# Altium schematic symbol library MiniSquidCtrl.SchLib: 64 symbols
Pins are listed as number, name and electrical type; pins without a type are passive.

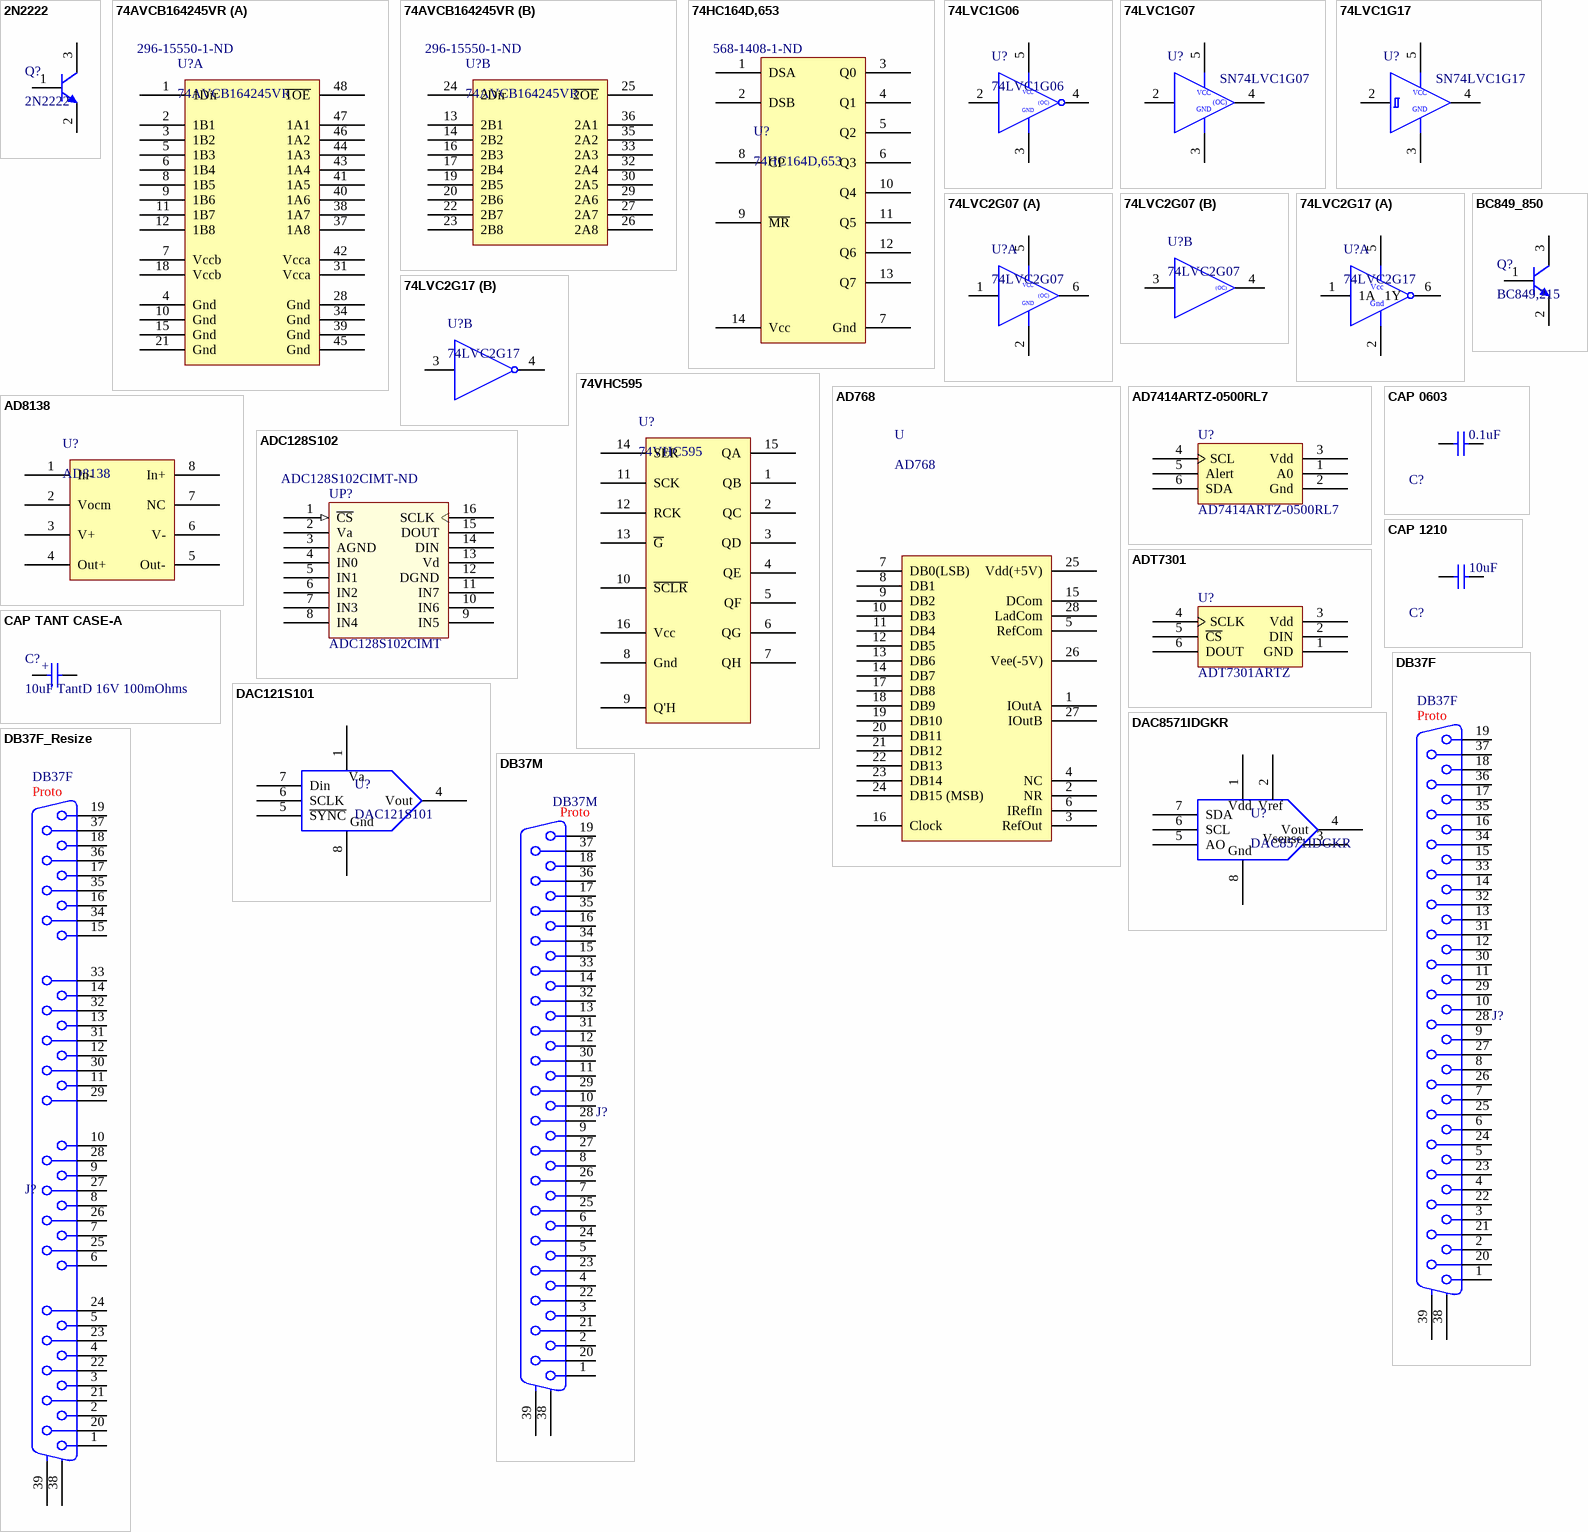
[diagram p0: symbols 2N2222 to DB37M]

## 2N2222
designator Q?
Trans GP BJT NPN 50V 0.8A 3-Pin UB; Manufacturer: Microsemi; Manufacturer Part Number: 2N2222AUB; Lead Time: 16 weeks; Supplier 1: Arrow; RoHS: CHINA ROHS: Not Compliant / EU ROHS: Not Compliant; Stock 1: 0; Pricing 1: 0=11.11 (USD); Package Quantity: 1; Termination Finish: SnPb; EU_ROHS_PROD_EXEMPTION_BY_SUPP: N/R; ComponentLink1URL: http://components.arrow.com/partservice/dataview/altium/5274365S6519402N9770?apiKey=aa438727d59eed98c4bed826d8d949c84cb5e685b92bf87346a0226bd2658797; ComponentLink1Description: http://components.arrow.com/partservice/dataview/altium/5274365S6519402N9770?apiKey=aa438727d59eed98c4bed826d8d949c84cb5e685b92bf87346a0226bd2658797; Footprint: 2N2222AUB
footprint 2N2222AUB (3 Pin package for 2N2222AUB)
pins: 1 B, 2 E, 3 C

## 74AVCB164245VR
designator U?  Supplier Part Number 1: 296-15550-1-ND
IC BUS TRANSCVR 16BIT 48TSSOP; Manufacturer: Texas Instruments; Manufacturer Part Number: SN74AVCB164245GR; Logic Function: Translator, Bidirectional, 3-State; Number of Bits: 16; Input Type: Logic; Number of Channels: 2; Number of Outputs/Channel: 8; Differential - Input:Output: No/No; Propagation Delay (Max): 3.1ns; Voltage - Supply: 1.4 V ~ 3.6 V; RoHS: RoHS Compliant; Category: Integrated Circuits (ICs); Output Type: Logic; Data Rate: -; Operating Temperature: -40°C ~ 85°C; Package / Case: 48-TFSOP (0.240", 6.10mm Width); Supplier Device Package: 48-TSSOP; Packaging: Cut Tape (CT); ComponentLink1URL: http://www.ti.com/lit/ds/symlink/sn74avcb164245.pdf; ComponentLink1Description: http://www.ti.com/lit/ds/symlink/sn74avcb164245.pdf; Supplier 1: Digi-Key
footprint SN74AVCB164245VR (TSSOP, 48-Leads, Body 9.8x4.5mm (max), Pitch 0.40mm, IPC Medium Density)
part A pins: 1 1Dir, 2 1B1, 3 1B2, 4 Gnd, 5 1B3, 6 1B4, 7 Vccb, 8 1B5, 9 1B6, 10 Gnd, 11 1B7, 12 1B8, 15 Gnd, 18 Vccb, 21 Gnd, 28 Gnd, 31 Vcca, 34 Gnd, 37 1A8, 38 1A7, 39 Gnd, 40 1A6, 41 1A5, 42 Vcca, 43 1A4, 44 1A3, 45 Gnd, 46 1A2, 47 1A1, 48 ~{1OE}
part B pins: 13 2B1, 14 2B2, 16 2B3, 17 2B4, 19 2B5, 20 2B6, 22 2B7, 23 2B8, 24 2Dir, 25 ~{2OE}, 26 2A8, 27 2A7, 29 2A6, 30 2A5, 32 2A4, 33 2A3, 35 2A2, 36 2A1

## 74HC164D,653
designator U?  Supplier Part Number 1: 568-1408-1-ND
IC SHIFT REGST 8BIT SI-PO 14SOIC; Manufacturer: NXP Semiconductors; Logic Type: Shift Register; Output Type: Standard; Number of Elements: 1; Number of Bits per Element: 8; Function: Serial to Parallel; Voltage - Supply: 2 V ~ 6 V; Supplier 1: Digi-Key; Manufacturer Part Number: 74HC164D,653; RoHS: RoHS Compliant; Category: Integrated Circuits (ICs); Stock 1: 69280; Pricing 1: 1=0.5, 10=0.392, 25=0.3308, 100=0.2696, 250=0.22332, 500=0.1845, 1000=0.13819 (CAD); Operating Temperature: -40°C ~ 125°C; Mounting Type: Surface Mount; Package / Case: 14-SOIC (0.154", 3.90mm Width); Supplier Device Package: 14-SO; Packaging: Cut Tape (CT); ComponentLink1URL: http://www.nxp.com/documents/data_sheet/74HC_HCT164.pdf; ComponentLink1Description: http://www.nxp.com/documents/data_sheet/74HC_HCT164.pdf
footprint SO14
pins: 1 DSA, 2 DSB, 3 Q0, 4 Q1, 5 Q2, 6 Q3, 7 Gnd, 8 CP, 9 ~{MR}, 10 Q4, 11 Q5, 12 Q6, 13 Q7, 14 Vcc

## 74LVC1G06
designator U?
SINGLE INVERTER BUFFER/DRIVER WITH OPEN-DRAIN OUTPUT; Manufacturer: Texas Instruments; Manufacturer Part Number: SN74LVC1G06DBVR; Logic Type: Inverter with Open Drain; Number of Inputs: 1; Current - Output High, Low: 32mA, 32mA; Voltage - Supply: 1.65 V ~ 5.5 V; Supplier 1: Digi-Key; RoHS: RoHS Compliant; Category: Integrated Circuits (ICs); Stock 1: 9248; Pricing 1: 1=0.1, 10=0.084, 25=0.0748, 100=0.0505, 250=0.04948, 500=0.04856, 750=0.04763 (CAD); Number of Circuits: 1; Operating Temperature: -40°C ~ 85°C; Mounting Type: Surface Mount; Package / Case: SC-74A, SOT-753; Supplier Device Package: SOT-23-5; Packaging: Cut Tape (CT); ComponentLink1URL: http://www.ti.com/lit/ds/symlink/sn74lvc1g06.pdf; ComponentLink1Description: http://www.ti.com/lit/ds/symlink/sn74lvc1g06.pdf
footprint SOT23-5
pins: 2 A, 3 Gnd (power), 4 Y, 5 Vcc (power)
text: VCC; (OC); GND

## 74LVC1G07
designator U?  PartNumber: SN74LVC1G07  (hidden comment: 74LVC1G07)
Single  NON-INVERTING BUFFER, Open Drain
footprint SOT23-5
pins: 2 A, 3 Gnd (power), 4 Y, 5 Vcc (power)
text: VCC; (OC); GND

## 74LVC1G17
designator U?  Part Number: SN74LVC1G17
Single Schmitt-Trigger buffer; Manufacturer: Texas Instruments; Manufacturer Part Number: SN74LVC1G17DBVR; Logic Type: Schmitt Trigger - Buffer, Driver; Number of Elements: 1; Current - Output High, Low: 32mA, 32mA; Voltage - Supply: 1.65 V ~ 5.5 V; Supplier 1: Digi-Key; RoHS: RoHS Compliant; Category: Integrated Circuits (ICs); Stock 1: 19444; Pricing 1: 1=0.1, 10=0.084, 25=0.0748, 100=0.0505, 250=0.04948, 500=0.04856, 750=0.04763 (CAD); Number of Bits per Element: 1; Operating Temperature: -40°C ~ 85°C; Mounting Type: Surface Mount; Package / Case: SC-74A, SOT-753; Supplier Device Package: SOT-23-5; Packaging: Cut Tape (CT); ComponentLink1URL: http://www.ti.com/lit/ds/symlink/sn74lvc1g17.pdf; ComponentLink1Description: http://www.ti.com/lit/ds/symlink/sn74lvc1g17.pdf
footprint SOT23-5
pins: 2 A, 3 Gnd (power), 4 Y, 5 Vcc (power)
text: VCC; GND

## 74LVC2G07
designator U?
Dual Non-Inverting Buffer, Open Drain
part A pins: 1 1A, 2 Gnd (power), 5 Vcc (power), 6 1Y
part B pins: 3 2A, 4 2Y
part A text: VCC; (OC); GND
part B text: (OC)

## 74LVC2G17
designator U?
Manufacturer: Texas Instruments; Manufacturer Part Number: SN74LVC2G17DBVR; Logic Type: Schmitt Trigger - Buffer, Driver; Number of Elements: 2; Number of Bits per Element: 1; Current - Output High, Low: 32mA, 32mA; Voltage - Supply: 1.65 V ~ 5.5 V; Supplier 1: Digi-Key; RoHS: RoHS Compliant; Category: Integrated Circuits (ICs); Stock 1: 23032; Pricing 1: 1=0.23, 10=0.194, 25=0.1728, 100=0.1168, 250=0.11452, 500=0.11238, 750=0.11023 (CAD); Operating Temperature: -40°C ~ 85°C; Mounting Type: Surface Mount; Package / Case: SOT-23-6; Supplier Device Package: SOT-23-6; Packaging: Cut Tape (CT); ComponentLink1URL: http://www.ti.com/lit/ds/symlink/sn74lvc2g17.pdf; ComponentLink1Description: http://www.ti.com/lit/ds/symlink/sn74lvc2g17.pdf
footprint SOT23-5
part A pins: 1 1A, 2 Gnd (power), 5 Vcc (power), 6 1Y
part B pins: 3 2A, 4 2Y

## 74VHC595
designator U?
IC SHIFT REGISTER 8BIT 16-SOIC; Manufacturer: Fairchild Semiconductor; Manufacturer Part Number: 74VHC595MX; Output Type: Standard; Number of Elements: 1; Number of Bits per Element: 8; Function: Serial to Parallel; Voltage - Supply: 2 V ~ 5.5 V; Supplier 1: Digi-Key; RoHS: RoHS Compliant; Category: Integrated Circuits (ICs); Stock 1: 53604; Pricing 1: 1=0.53, 10=0.427, 25=0.374, 100=0.3205, 250=0.2768, 500=0.23796, 1000=0.18453 (CAD); Logic Type: Shift Register; Operating Temperature: -40°C ~ 85°C; Mounting Type: Surface Mount; Package / Case: 16-SOIC (0.154", 3.90mm Width); Supplier Device Package: 16-SOIC; Packaging: Cut Tape (CT); ComponentLink1URL: http://www.fairchildsemi.com/ds/74/74VHC595.pdf; ComponentLink1Description: http://www.fairchildsemi.com/ds/74/74VHC595.pdf
footprint SO16
pins: 1 QB, 2 QC, 3 QD, 4 QE, 5 QF, 6 QG, 7 QH, 8 Gnd, 9 Q'H, 10 ~{SCLR}, 11 SCK, 12 RCK, 13 ~{G}, 14 SER, 15 QA, 16 Vcc

## AD768
designator U
IC DAC 16BIT 30MSPS 28-SOIC; Manufacturer: Analog Devices Inc; Manufacturer Part Number: AD768ARZ; Settling Time: 25ns; Number of Bits: 16; Data Interface: Parallel; Number of Converters: 1; Voltage Supply Source: Dual ±; Power Dissipation (Max): 600mW; Number of Outputs and Type: 2 Current, Unipolar; 2 Current, Bipolar; Sampling Rate (Per Second): 40M; Supplier 1: Digi-Key; RoHS: RoHS Compliant; Category: Integrated Circuits (ICs); Stock 1: 33; Pricing 1: 1=47.2, 25=40.8212, 100=38.27, 250=35.71872, 500=33.93294, 1000=32.52963, 2500=31.63659 (CAD); Operating Temperature: -40°C ~ 85°C; Mounting Type: Surface Mount; Package / Case: 28-SOIC (0.295", 7.50mm Width); Supplier Device Package: 28-SOIC W; Packaging: Tube; ComponentLink1URL: http://www.analog.com/static/imported-files/data_sheets/AD768.pdf; ComponentLink1Description: http://www.analog.com/static/imported-files/data_sheets/AD768.pdf
footprint SOIC28_7.6mmBodyWidth (SOIC, 28-Leads, Body 18.1x7.6mm (max), Pitch 1.27mm, IPC Medium Density)
pins: 1 IOutA, 2 NR, 3 RefOut, 4 NC, 5 RefCom, 6 IRefIn, 7 DB0(LSB), 8 DB1, 9 DB2, 10 DB3, 11 DB4, 12 DB5, 13 DB6, 14 DB7, 15 DCom, 16 Clock, 17 DB8, 18 DB9, 19 DB10, 20 DB11, 21 DB12, 22 DB13, 23 DB14, 24 DB15 (MSB), 25 Vdd(+5V), 26 Vee(-5V), 27 IOutB, 28 LadCom

## AD7414ARTZ-0500RL7
designator U?
Digital Temperature Sensor, 11-Bit, +/-2 Degree Accurate; Manufacturer: Analog Devices; CanPurchaseFrom: Digikey; Footprint: *; TechInfo: *; Manufacturers P/N: AD7414ARTZ-0500RL7
footprint SOT23-6
pins: 1 A0 (power), 2 Gnd, 3 Vdd (power), 4 SCL, 5 Alert, 6 SDA

## AD8138
designator U?
IC AMP DIFF LDIST LP 95MA 8SOIC; Manufacturer: Analog Devices Inc; Manufacturer Part Number: AD8138ARZ; Supplier 1: Digi-Key; RoHS: RoHS Compliant; Category: Integrated Circuits (ICs); Stock 1: 1339; Pricing 1: 1=9.41, 25=7.7196, 100=6.9662, 250=6.40144, 500=5.83662, 1000=5.0835, 2500=4.89522, 5000=4.74211 (CAD); Type: ADC Driver; Applications: Data Acquisition; Mounting Type: Surface Mount; Package / Case: 8-SOIC (0.154", 3.90mm Width); Supplier Device Package: 8-SOIC; Packaging: Tube; ComponentLink1URL: http://www.analog.com/static/imported-files/data_sheets/AD8138.pdf; ComponentLink1Description: http://www.analog.com/static/imported-files/data_sheets/AD8138.pdf
footprint SO8
pins: 1 In-, 2 Vocm, 3 V+, 4 Out+, 5 Out-, 6 V-, 7 NC, 8 In+
1 alternate drawing of the same symbol

## ADC128S102
designator UP?, comment ADC128S102CIMT  Supplier Part Number 1: ADC128S102CIMT-ND
8-Channels, 500kSPS to 1 MSPS, 12-Bit ADC; Manufacturer: National Semiconductor; Manufacturer Part Number: ADC128S102CIMT/NOPB; Number of Bits: 12; Sampling Rate (Per Second): 1M; Data Interface: DSP, MICROWIRE™, QSPI™, Serial, SPI™; Number of Converters: 1; Power Dissipation (Max): 10.7mW; Voltage Supply Source: Analog and Digital; Number of Inputs and Type: 8 Single-Ended, Unipolar; Supplier 1: Digi-Key; RoHS: RoHS Compliant; Category: Integrated Circuits (ICs); Stock 1: 1404; Pricing 1: 1=7, 25=5.734, 100=5.1745, 250=4.75496, 500=4.33542, 1000=3.776, 2500=3.63615, 5000=3.4963 (CAD); Operating Temperature: -40°C ~ 105°C; Mounting Type: Surface Mount; Package / Case: 16-TSSOP (0.173", 4.40mm Width); Supplier Device Package: 16-TSSOP; Packaging: Tube; ComponentLink1URL: http://www.ti.com/lit/ds/symlink/adc128s102.pdf; ComponentLink1Description: http://www.ti.com/lit/ds/symlink/adc128s102.pdf
footprint SSO-G16/X.45 (SSOP; 16 Leads; Body Width 5.3 mm; Pitch 0.65 mm)
pins: 1 ~{CS} (in), 2 Va (power), 3 AGND (power), 4 IN0, 5 IN1, 6 IN2, 7 IN3, 8 IN4, 9 IN5, 10 IN6, 11 IN7, 12 DGND (power), 13 Vd (power), 14 DIN, 15 DOUT, 16 SCLK

## ADT7301
designator U?, comment ADT7301ARTZ
Digital Temperature Sensor, 13-Bit, +/-1 Degree Accurate; Manufacturer: Analog Devices; CanPurchaseFrom: Digikey; Footprint: *; TechInfo: *; Manufacturers P/N: ADT7301ARTZ
footprint SOT23-6
pins: 1 GND (power), 2 DIN, 3 Vdd (power), 4 SCLK, 5 ~{CS}, 6 DOUT

## BC849_850
designator Q?, comment BC849,215
TRANSISTOR NPN 30V 100MA SOT23; Manufacturer 1: NXP Semiconductors; Manufacturer Part Number 1: BC849C,215; Category 1: Discrete Semiconductor Products; Vce Saturation (Max) @ Ib, Ic: 600mV @ 5mA, 100mA; DC Current Gain (hFE) (Min) @ Ic, Vce: 420 @ 2mA, 5V; Power - Max: 250mW; Frequency - Transition: 100MHz; Supplier 1: Digi-Key; RoHS 1: RoHS Compliant; Description 1: TRANSISTOR NPN 30V 100MA SOT23; Stock 1: 9000; Pricing 1: 3000=0.04162, 6000=0.03754, 15000=0.03264, 30000=0.02938, 75000=0.02611, 150000=0.0217 (CAD); Transistor Type: NPN; Current - Collector (Ic) (Max): 100mA; Voltage - Collector Emitter Breakdown (Max): 30V; Current - Collector Cutoff (Max): -; Mounting Type: Surface Mount; Package / Case: TO-236-3, SC-59, SOT-23-3; Supplier Device Package: TO-236AB; Packaging: Tape & Reel (TR); ComponentLink1URL: http://www.nxp.com/documents/data_sheet/BC849_BC850.pdf; ComponentLink1Description: http://www.nxp.com/documents/data_sheet/BC849_BC850.pdf; Supplier Part Number 1: 568-6073-2-ND
footprint SOT23
pins: 1 B, 2 E, 3 C

## CAP 0603
designator C?  value 0.1uF
Capacitor, Ceramic, 0603; Manufacturer: Generic; Voltage: 16V; Tolerance: 10%; Material: X7R; Manufacturer Part Number: ='CAP'+Footprint+' '+Value + ' ' + Voltage + ' ' + Tollerance + ' ' + Material + ' (e.g C0603C series)'; Footprint: 0603; Part Constraints: =Capacitance + ' ' + Voltage + ' ' + Tollerance + ' ' + Material + ' ' + Footprint
footprint 0603
pins: 1, 2

## CAP 1210
designator C?, comment value 10uF  (hidden comment: 10uF, 1210)
Capacitor, Ceramic, 1210; Manufacturer Part Number: 1206YD106KAT2A; Manufacturer: AVX Corporation; Part Constraints: 10uF 1210 16V X5R <=1.78mm height; Voltage: 16V; Footprint: 1210; Supplier 1: Digikey; Supplier Part Number 1: 478-1573-1-ND
footprint CC3225-1210
pins: 1, 2

## CAP TANT CASE-A
designator C?, comment 10uF TantD 16V 100mOhms
Tant Cap; Manufacturer: Generic; Footprint: D; Capacitance: 10uF; Voltage: 16V; ESR: 100mOhms
footprint TCASE-D
footprint TCASE-B
footprint TCASE-A
pins: 1, 2
text: +

## DAC121S101
designator U?
CONV D/A 12BIT MICROPWR 8MSOP; Manufacturer: National Semiconductor; Manufacturer Part Number: DAC121S101CIMM/NOPB; Settling Time: 12µs; Number of Bits: 12; Data Interface: DSP, MICROWIRE™, QSPI™, Serial, SPI™; Number of Converters: 1; Voltage Supply Source: Single Supply; Power Dissipation (Max): 1.72mW; Number of Outputs and Type: 1 Voltage, Unipolar; 1 Voltage, Bipolar; Supplier 1: Digi-Key; RoHS: RoHS Compliant; Category: Integrated Circuits (ICs); Stock 1: 3011; Pricing 1: 1=3.5, 25=2.8616, 100=2.5698, 250=2.33624, 500=2.0442 (CAD); Operating Temperature: -40°C ~ 105°C; Mounting Type: Surface Mount; Package / Case: 8-TSSOP, 8-MSOP (0.118", 3.00mm Width); Supplier Device Package: 8-MSOP; Packaging: Cut Tape (CT); Sampling Rate (Per Second): *; ComponentLink1URL: http://www.ti.com/lit/ds/symlink/dac121s101.pdf; ComponentLink1Description: http://www.ti.com/lit/ds/symlink/dac121s101.pdf
footprint MSOP-8
pins: 1 Va, 2 NC hidden, 3 NC hidden, 4 Vout, 5 ~{SYNC}, 6 SCLK, 7 Din, 8 Gnd
1 alternate drawing of the same symbol

## DAC8571IDGKR
designator U?
IC DAC 16BIT I2C V-OUT LP 8-MSOP; Manufacturer 1: Texas Instruments; Category 1: Integrated Circuits (ICs); Settling Time: 12µs; Number of Bits: 16; Data Interface: I²C, Serial; Number of Converters: 1; Voltage Supply Source: Single Supply; Number of Outputs and Type: 1 Voltage, Unipolar; Sampling Rate (Per Second): 43k; Supplier 1: Digi-Key; Manufacturer Part Number 1: DAC8571IDGKR; RoHS 1: RoHS Compliant; Description 1: IC DAC 16BIT I2C V-OUT LP 8-MSOP; Stock 1: 21077; Pricing 1: 1=7.6, 10=6.839, 25=6.2192, 100=3.9792, 250=3.9054, 500=3.83172, 750=3.75803 (CAD); Power Dissipation (Max): -; Operating Temperature: -40°C ~ 105°C; Mounting Type: Surface Mount; Package / Case: 8-TSSOP, 8-MSOP (0.118", 3.00mm Width); Supplier Device Package: 8-MSOP; Packaging: Cut Tape (CT); ComponentLink1URL: http://www.ti.com/lit/ds/symlink/dac8571.pdf; ComponentLink1Description: http://www.ti.com/lit/ds/symlink/dac8571.pdf; Supplier Part Number 1: 296-14307-1-ND
footprint MSOP-8
pins: 1 Vdd, 2 Vref, 3 Vsense, 4 Vout, 5 AO, 6 SCL, 7 SDA, 8 Gnd
1 alternate drawing of the same symbol

## DB37F
designator J?  Symbol status: Proto
DB37F; Manufacturer: Generic; Manufacturer Part Number: DB37F
footprint DSUB37-F (DSUB 37Pin Female)
pins: 1, 2, 3, 4, 5, 6, 7, 8, 9, 10, 11, 12, 13, 14, 15, 16, 17, 18, 19, 20, 21, 22, 23, 24, 25, 26, 27, 28, 29, 30, 31, 32, 33, 34, 35, 36, 37, 38 MH1, 39 MH2
1 alternate drawing of the same symbol

## DB37F_Resize
designator J?  Symbol status: Proto
DB37F; Manufacturer: Generic; Manufacturer Part Number: DB37F
footprint DSUB37-F (DSUB 37Pin Female)
footprint DSUB37-F (590mils) (DSUB 37Pin Female - 590mils from board edge to first pin)
pins: 1, 2, 3, 4, 5, 6, 7, 8, 9, 10, 11, 12, 13, 14, 15, 16, 17, 18, 19, 20, 21, 22, 23, 24, 25, 26, 27, 28, 29, 30, 31, 32, 33, 34, 35, 36, 37, 38 MH1, 39 MH2
1 alternate drawing of the same symbol

## DB37M
designator J?  Symbol status: Proto
DB37M; Manufacturer: Generic; Manufacturer Part Number: DB37M
footprint DSUB37-M (DSUB 37Pin Male)
pins: 1, 2, 3, 4, 5, 6, 7, 8, 9, 10, 11, 12, 13, 14, 15, 16, 17, 18, 19, 20, 21, 22, 23, 24, 25, 26, 27, 28, 29, 30, 31, 32, 33, 34, 35, 36, 37, 38 MH1, 39 MH2
1 alternate drawing of the same symbol

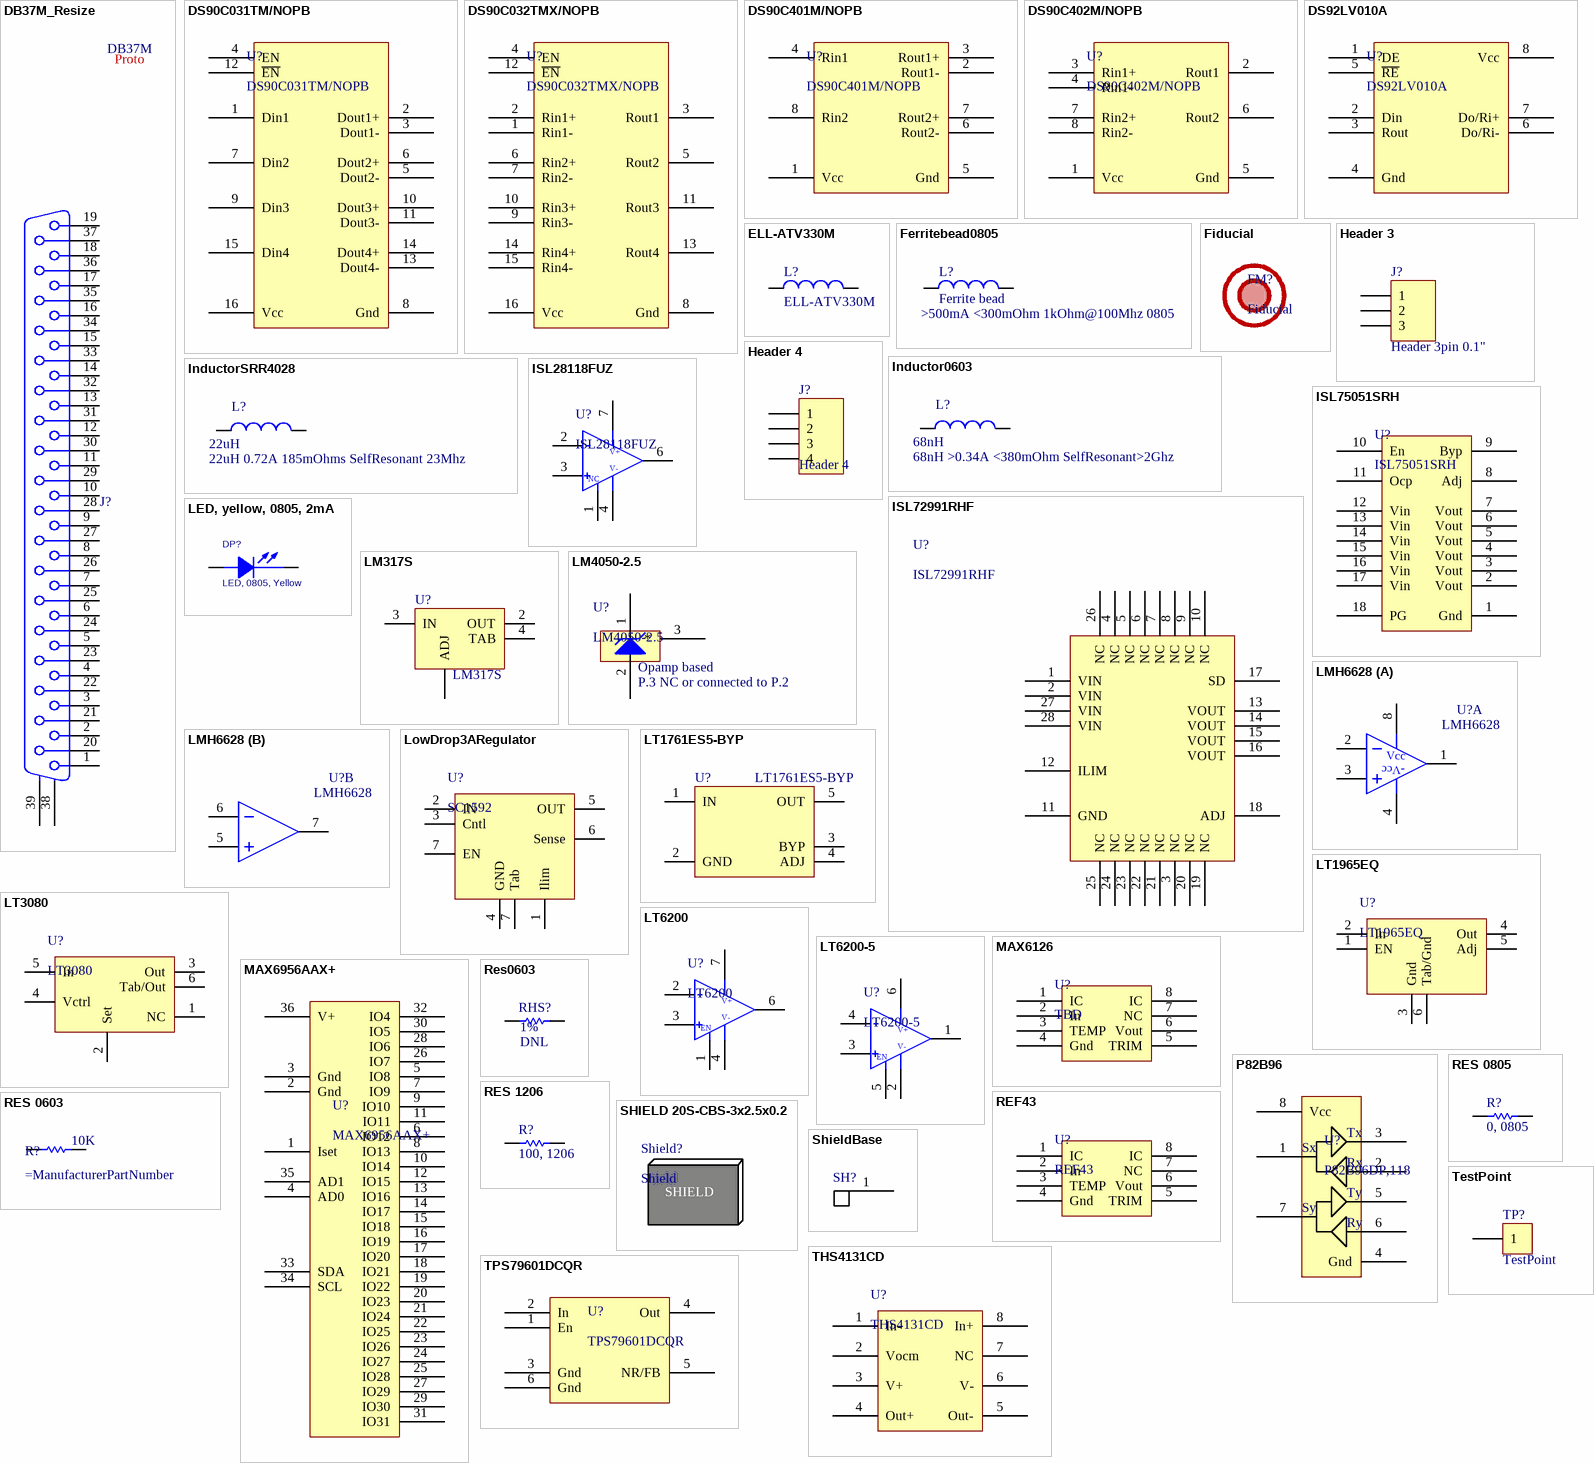
[diagram p1: symbols DB37M_Resize to TPS79601DCQR]

## DB37M_Resize
designator J?  Symbol status: Proto
DB37M; Manufacturer: Generic; Manufacturer Part Number: DB37M
footprint DSUB37-M (DSUB 37Pin Male)
footprint DSUB37-M (590mils) (DSUB 37Pin Male - 590mils from board edge to first pin)
pins: 1, 2, 3, 4, 5, 6, 7, 8, 9, 10, 11, 12, 13, 14, 15, 16, 17, 18, 19, 20, 21, 22, 23, 24, 25, 26, 27, 28, 29, 30, 31, 32, 33, 34, 35, 36, 37, 38 MH1, 39 MH2
1 alternate drawing of the same symbol

## DS90C031TM/NOPB
designator U?
IC LINE DRVR LVDS QUAD 16-SOIC; Manufacturer: National Semiconductor; Number of Drivers/Receivers: 4/0; Voltage - Supply: 4.5 V ~ 5.5 V; Supplier 1: Digi-Key; Manufacturer Part Number: DS90C031TM/NOPB; RoHS: RoHS Compliant; Category: Integrated Circuits (ICs); Stock 1: 1891; Pricing 1: 1=3.12, 25=2.5076, 100=2.2848, 250=2.06188, 500=1.85012, 1000=1.56034, 2500=1.48232, 5000=1.42102, 10000=1.38202 (CAD); Type: Driver; Protocol: LVDS; Mounting Type: Surface Mount; Package / Case: 16-SOIC (0.154", 3.90mm Width); Supplier Device Package: 16-SOIC N; Packaging: Tube; ComponentLink1URL: http://www.ti.com/lit/ds/symlink/ds90c031.pdf; ComponentLink1Description: http://www.ti.com/lit/ds/symlink/ds90c031.pdf
footprint SO16
pins: 1 Din1, 2 Dout1+, 3 Dout1-, 4 EN, 5 Dout2-, 6 Dout2+, 7 Din2, 8 Gnd, 9 Din3, 10 Dout3+, 11 Dout3-, 12 ~{EN}, 13 Dout4-, 14 Dout4+, 15 Din4, 16 Vcc

## DS90C032TMX/NOPB
designator U?
IC LINE RCVR LVDS QUAD 16-SOIC; Manufacturer: National Semiconductor; Number of Drivers/Receivers: 0/4; Voltage - Supply: 4.5 V ~ 5.5 V; Supplier 1: Digi-Key; Manufacturer Part Number: DS90C032TMX/NOPB; RoHS: RoHS Compliant; Category: Integrated Circuits (ICs); Stock 1: 7314; Pricing 1: 1=3.23, 25=2.4884, 100=2.258, 250=2.0276, 500=1.7511, 1000=1.47461 (CAD); Type: Receiver; Protocol: LVDS; Mounting Type: Surface Mount; Package / Case: 16-SOIC (0.154", 3.90mm Width); Supplier Device Package: 16-SOIC N; Packaging: Cut Tape (CT); ComponentLink1URL: http://www.ti.com/lit/ds/symlink/ds90c032.pdf; ComponentLink1Description: http://www.ti.com/lit/ds/symlink/ds90c032.pdf
footprint SO16
pins: 1 Rin1-, 2 Rin1+, 3 Rout1, 4 EN, 5 Rout2, 6 Rin2+, 7 Rin2-, 8 Gnd, 9 Rin3-, 10 Rin3+, 11 Rout3, 12 ~{EN}, 13 Rout4, 14 Rin4+, 15 Rin4-, 16 Vcc

## DS90C401M/NOPB
designator U?
IC DRV LVDS DUAL DIFF SGNL 8SOIC; Manufacturer 1: Texas Instruments; Manufacturer Part Number 1: DS90C401MX/NOPB; Description 1: IC DVR SIGNALING DUAL DIFF 8SOIC; Category 1: Integrated Circuits (ICs); Number of Drivers/Receivers: 2/0; Voltage - Supply: 4.5 V ~ 5.5 V; Supplier 1: Digi-Key; RoHS 1: RoHS Compliant; Stock 1: 2289; Pricing 1: 1=3.37, 10=3.044, 25=2.7264, 100=2.4519, 250=2.17716, 500=1.90238, 1000=1.57474 (CAD); Type: Driver; Protocol: LVDS; Mounting Type: Surface Mount; Package / Case: 8-SOIC (0.154", 3.90mm Width); Supplier Device Package: *; Packaging: Cut Tape (CT); ComponentLink1URL: http://www.ti.com/lit/ds/symlink/ds90c401.pdf; ComponentLink1Description: http://www.ti.com/lit/ds/symlink/ds90c401.pdf; Supplier Part Number 1: 296-35380-1-ND
footprint SO8
pins: 1 Vcc, 2 Rout1-, 3 Rout1+, 4 Rin1, 5 Gnd, 6 Rout2-, 7 Rout2+, 8 Rin2

## DS90C402M/NOPB
designator U?
IC REC LVDS DUAL DIFF SGNL 8SOIC; Manufacturer 1: Texas Instruments; Manufacturer Part Number 1: DS90C402MX/NOPB; Description 1: IC RVR SIGNALING DUAL DIFF 8SOIC; Category 1: Integrated Circuits (ICs); Number of Drivers/Receivers: 0/2; Voltage - Supply: 4.5 V ~ 5.5 V; Supplier 1: Digi-Key; RoHS 1: RoHS Compliant; Stock 1: 2460; Pricing 1: 1=3.3, 10=2.95, 25=2.6528, 100=2.4127, 250=2.18404, 500=1.95532, 1000=1.64659 (CAD); Type: Receiver; Protocol: LVDS; Mounting Type: Surface Mount; Package / Case: 8-SOIC (0.154", 3.90mm Width); Supplier Device Package: *; Packaging: Cut Tape (CT); ComponentLink1URL: http://www.ti.com/lit/ds/symlink/ds90c402.pdf; ComponentLink1Description: http://www.ti.com/lit/ds/symlink/ds90c402.pdf; Supplier Part Number 1: 296-35381-1-ND
footprint SO8
pins: 1 Vcc, 2 Rout1, 3 Rin1+, 4 Rin1-, 5 Gnd, 6 Rout2, 7 Rin2+, 8 Rin2-

## DS92LV010A
designator U?
IC TXRX BUS LVDS SINGLE 8-SOI
footprint SO8
pins: 1 DE, 2 Din, 3 Rout, 4 Gnd, 5 ~{RE}, 6 Do/Ri-, 7 Do/Ri+, 8 Vcc

## ELL-ATV330M
designator L?
33uH 1.8A inductor 10mmx10mm; Manufacturer: Panasonic - ECG; Inductance: 33µH; Type: Ferrite Core; Tolerance: ±20%; Shielding: Shielded; DC Resistance (DCR): 62 mOhm; Frequency - Test: 100kHz; Supplier 1: Digi-Key; Manufacturer Part Number: ELL-ATV330M; RoHS: RoHS Compliant; Category: Inductors, Coils, Chokes; Stock 1: 6281; Pricing 1: 1=2.28, 10=2.15, 50=2.0154, 100=1.8811 (CAD); Current: 1.8A; Current - Saturation: -; Current - Temperature Rise: -; Q @ Freq: -; Frequency - Self Resonant: -; Applications: General Purpose; Material - Core: -; Package / Case: 0.394" L x 0.394" W x 0.177" H (10.00mm x 10.00mm x 4.50mm); Mounting Type: Surface Mount; Packaging: Cut Tape (CT); Operating Temperature: -; ComponentLink1URL: http://industrial.panasonic.com/www-cgi/jvcr13pz.cgi?E+PZ+2+AGM0010+0+4+WW; ComponentLink1Description: http://industrial.panasonic.com/www-cgi/jvcr13pz.cgi?E+PZ+2+AGM0010+0+4+WW
footprint ELLATV (Inductor)
pins: 1, 2

## Ferritebead0805
designator L?, comment Ferrite bead  PartConstraints: >500mA <300mOhm 1kOhm@100Mhz 0805
Ferrite bead 0805; Manufacturer: e.g TDK Corporation; Manufacturer Part Number: e.g MMZ2012R102A; CurrentRating: >500mA; DCR: <300mOhm; Impedance: 1kOhm@100Mhz; Footprint: 0805
footprint 0805
pins: 1, 2

## Fiducial
designator FM?
footprint Fiducial_mark

## Header 3
designator J?, comment Header 3pin 0.1"
Header, 0.1"  3-Pin straight (Any equivalent - may need to be value added); Manufacturer: Digikey; Manufacturers P/N: A26508-03-ND
footprint HDR1X3
signal-integrity model Connector
pins: 1, 2, 3

## Header 4
designator J?
Header, 0.1"  4-Pin straight; LatestRevisionDate: 17-Jul-2002; LatestRevisionNote: Re-released for DXP Platform.; Publisher: Altium Limited
signal-integrity model Connector
footprint HDR1X4
footprint CON4M
pins: 1, 2, 3, 4

## Inductor0603
designator L?, comment 68nH  PartConstraints: 68nH >0.34A <380mOhm SelfResonant>2Ghz
Inductor 0603; Manufacturer: e.g Murata; Manufacturers P/N: e.g LQW18AN68NJ00D; Resistance: <380mOhm; CurrentRating: >0.34A; SRF: SelfResonant>2Ghz; Footprint: 0603; Inductance: 68nH
footprint 0603
pins: 1, 2

## InductorSRR4028
designator L?, comment 22uH  PartConstraints: 22uH 0.72A 185mOhms SelfResonant 23Mhz
=PartConstraints; Manufacturer: Bourns; Manufacturers P/N: SRR4028-220Y; Resistance: 185mOhms; CurrentRating: 0.72A; SRF: SelfResonant 23Mhz; Footprint: SRR4028; Inductance: 22uH
footprint SRR4028
pins: 1, 2

## ISL28118FUZ
designator U?
IC OPAMP PREC R-R 4MHZ LP 8MSOP; Manufacturer 1: Intersil; Manufacturer Part Number 1: ISL28118FUZ-T7A; Category 1: Integrated Circuits (ICs); Amplifier Type: General Purpose; Number of Circuits: 1; Output Type: Rail-to-Rail; Slew Rate: 1.2 V/µs; Current - Input Bias: 230nA; Voltage - Input Offset: 25µV; Current - Supply: 850µA; Current - Output / Channel: 28mA; Voltage - Supply, Single/Dual (±): 3 V ~ 40 V, -1.2 V/+1.8 V ~ ±20 V; Supplier 1: Digi-Key; RoHS 1: RoHS Compliant; Description 1: IC OPAMP PREC R-R 4MHZ LP 8MSOP; Stock 1: 469; Pricing 1: 1=4.51, 25=3.5524, 100=3.0141 (CAD); Gain Bandwidth Product: 4MHz; -3db Bandwidth: -; Operating Temperature: -40°C ~ 125°C; Mounting Type: Surface Mount; Package / Case: 8-TSSOP, 8-MSOP (0.118", 3.00mm Width); Supplier Device Package: 8-MSOP; Packaging: Cut Tape (CT); ComponentLink1URL: http://www.intersil.com/content/dam/Intersil/documents/fn75/fn7532.pdf; ComponentLink1Description: http://www.intersil.com/content/dam/Intersil/documents/fn75/fn7532.pdf; Supplier Part Number 1: ISL28118FUZ-T7ACT-ND
footprint MSOP8-P82B96 (TSOP, 8-Leads, Body 3.1x3.1mm (max), Pitch 0.65mm, IPC Medium Density)
pins: 1 SHDN, 2 IN-, 3 IN+, 4 V- (power), 6 OUT-, 7 V+ (power)
1 alternate drawing of the same symbol

## ISL72991RHF
designator U?
1A, Rad Hard, Negative, Low Dropout Regulator; Manufacturer Part Number: ISL72991RHF
pins: 1 VIN, 2 VIN, 3 NC, 4 NC, 5 NC, 6 NC, 7 NC, 8 NC, 9 NC, 10 NC, 11 GND, 12 ILIM, 13 VOUT, 14 VOUT, 15 VOUT, 16 VOUT, 17 SD, 18 ADJ, 19 NC, 20 NC, 21 NC, 22 NC, 23 NC, 24 NC, 25 NC, 26 NC, 27 VIN, 28 VIN

## ISL75051SRH
designator U?
3A, Rad Hard, Positive, Ultra Low Dropout Regulator; Manufacturer Part Number: ISL75051SRH
pins: 1 Gnd, 2 Vout, 3 Vout, 4 Vout, 5 Vout, 6 Vout, 7 Vout, 8 Adj, 9 Byp, 10 En, 11 Ocp, 12 Vin, 13 Vin, 14 Vin, 15 Vin, 16 Vin, 17 Vin, 18 PG

## LED, yellow, 0805, 2mA
designator DP?, comment LED, 0805, Yellow
LED; Part Constraints: 511-1293-1-ND; Supplier 1: Digi-Key; Supplier Part Number 1: 511-1293-1-ND
footprint 0805L
pins: 1 ANODE, 2 CATHODE

## LM317S
designator U?
REG, POSITIVE ADJ TO-263; Manufacturer: National Semiconductor; Manufacturers P/N: LM317S/NOPB; Footprint: *
footprint TO263-3
pins: 1 ADJ (power) "GND", 2 OUT (power), 3 IN (power), 4 TAB (power) "Seating pin"

## LM4050-2.5
designator U?
IC VREF SHUNT PREC 2.5V SOT-23-3; Manufacturer: National Semiconductor; Manufacturer Part Number: LM4050CIM3-2.5/NOPB; Reference Type: Shunt, Precision; Tolerance: ±0.5%; Temperature Coefficient: 50ppm/°C; Number of Channels: 1; Current - Cathode: 65µA; Current - Output: 15mA; Supplier 1: Digi-Key; RoHS: RoHS Compliant; Category: Integrated Circuits (ICs); Stock 1: 2606; Pricing 1: 1=2.78, 25=2.144, 100=1.9456, 250=1.74704, 500=1.5088 (CAD); Voltage - Output: 2.5V; Voltage - Input: -; Current - Quiescent: -; Operating Temperature: -40°C ~ 85°C; Mounting Type: Surface Mount; Package / Case: TO-236-3, SC-59, SOT-23-3; Supplier Device Package: SOT-23-3; Packaging: Digi-Reel®; ComponentLink1URL: http://www.ti.com/lit/ds/symlink/lm4050-n.pdf; ComponentLink1Description: http://www.ti.com/lit/ds/symlink/lm4050-n.pdf
footprint SOT23
pins: 1 +, 2 -, 3 *
text: Opamp based; P.3 NC or connected to P.2

## LMH6628
designator U?
IC OP AMP DUAL 2CH LN 8-SOIC; Manufacturer: National Semiconductor; Manufacturer Part Number: LMH6628MA/NOPB; Amplifier Type: Voltage Feedback; Number of Circuits: 2; Slew Rate: 550 V/µs; Gain Bandwidth Product: 200MHz; -3db Bandwidth: 300MHz; Current - Input Bias: 700nA; Voltage - Input Offset: 500µV; Current - Supply: 9mA; Current - Output / Channel: 85mA; Voltage - Supply, Single/Dual (±): 5 V ~ 12 V, ±2.5 V ~ 6 V; Supplier 1: Digi-Key; Supplier 2: Digi-Key; RoHS: RoHS Compliant; Category: Integrated Circuits (ICs); Stock 2: 1306; Pricing 2: 1=4.27, 25=3.424, 100=3.1196, 250=2.81524, 500=2.52612, 1000=2.13047, 2500=2.02394, 5000=1.94025, 10000=1.88698 (CAD); Output Type: -; Operating Temperature: -40°C ~ 85°C; Mounting Type: Surface Mount; Package / Case: 8-SOIC (0.154", 3.90mm Width); Supplier Device Package: 8-SOIC; Packaging: Tube; ComponentLink1URL: http://www.ti.com/lit/ds/symlink/lmh6628.pdf; ComponentLink1Description: http://www.ti.com/lit/ds/symlink/lmh6628.pdf
footprint SO8
part A pins: 1 OUT, 2 IN-, 3 IN+, 4 GND, 8 VDD
part B pins: 5 IN+, 6 IN-, 7 OUT
part A text: Vcc; -Vcc

## LowDrop3ARegulator
designator U?, comment SC1592
pins: 1 Ilim (power) "GND", 2 IN (power), 3 Cntl (power), 4 GND (power), 5 OUT (power), 6 Sense (power) "Seating pin", 7 EN (power) "GND", 7 Tab (power) "GND"

## LT1761ES5-BYP
designator U?
100mA, Low Noise, Low Dropout Positive Micropower Regulator
footprint SOT23-5
pins: 1 IN (power), 2 GND (power), 3 BYP, 4 ADJ, 5 OUT (power)

## LT1965EQ
designator U?
Low dropout regulator, single resistor, 1.1A; Manufacturer 1: Linear Technology; Manufacturer Part Number 1: LT1965EQ#PBF; Description 1: IC REG LDO ADJ 1.1A 5-DD; Category 1: Integrated Circuits (ICs); Regulator Topology: Positive Adjustable; Voltage - Output: 1.2 V ~ 19.5 V; Voltage - Input: 1.8 V ~ 20 V; Voltage - Dropout (Typical): 0.31V @ 1.1A; Number of Regulators: 1; Current - Limit (Min): 1.2A; Supplier 1: Digi-Key; RoHS 1: RoHS Compliant; Stock 1: 1301; Pricing 1: 1=4.88, 25=3.486, 100=2.8753 (CAD); Current - Output: 1.1A; Operating Temperature: -40°C ~ 125°C; Mounting Type: Surface Mount; Package / Case: TO-263-6, D²Pak (5 Leads + Tab), TO-263BA; Supplier Device Package: D2PAK-5; Packaging: Tube; ComponentLink1URL: http://www.linear.com/docs/25320; ComponentLink1Description: http://www.linear.com/docs/25320; Supplier Part Number 1: LT1965EQ#PBF-ND
footprint D2-PAK-6_LT3080 (D2-PAK, 6-Pads, Body 9.4x10.5mm (max), IPC Medium Density)
pins: 1 EN (power), 2 In (power), 3 Gnd (power) "GND", 4 Out (power), 5 Adj (power), 6 Tab/Gnd (power) "GND"

## LT3080
designator U?
Low dropout regulator, single resistor, 1.1A
footprint D2-PAK-6_LT3080 (D2-PAK, 6-Pads, Body 9.4x10.5mm (max), IPC Medium Density)
pins: 1 NC (power), 2 Set (power), 3 Out (power), 4 Vctrl (power) "GND", 5 In (power), 6 Tab/Out (power) "GND"

## LT6200
designator U?
IC OPAMP R-R I/O 165MHZ 8-SOIC; Manufacturer: Linear Technology; Manufacturer Part Number: LT6200CS8#PBF; Amplifier Type: Buffer; Number of Circuits: 1; Output Type: Rail-to-Rail; Slew Rate: 50 V/µs; Current - Input Bias: 23µA; Voltage - Input Offset: 2500µV; Current - Supply: 20mA; Current - Output / Channel: 90mA; Voltage - Supply, Single/Dual (±): 2.5 V ~ 12.6 V, ±1.25 V ~ 6.3 V; Supplier 1: Digi-Key; RoHS: RoHS Compliant; Category: Integrated Circuits (ICs); Stock 1: 1263; Pricing 1: 1=4.72, 25=3.1288, 100=2.572 (CAD); Gain Bandwidth Product: 165MHz; -3db Bandwidth: -; Operating Temperature: 0°C ~ 70°C; Mounting Type: Surface Mount; Package / Case: 8-SOIC (0.154", 3.90mm Width); Supplier Device Package: 8-SO; Packaging: Tube; ComponentLink1URL: http://www.linear.com/docs/3869; ComponentLink1Description: http://www.linear.com/docs/3869
footprint SO8
pins: 1 SHDN, 2 IN-, 3 IN+, 4 V- (power), 6 OUT-, 7 V+ (power)
1 alternate drawing of the same symbol
text: EN

## LT6200-5
designator U?
IC OPAMP R-R I/O 800MHZ SOT-23-6; Manufacturer 1: Linear Technology; Manufacturer Part Number 1: LT6200CS6-5#TRM; Category 1: Integrated Circuits (ICs); Amplifier Type: Buffer; Number of Circuits: 1; Output Type: Rail-to-Rail; Slew Rate: 250 V/µs; Current - Input Bias: 23µA; Voltage - Input Offset: 2.5mV; Current - Supply: 20mA; Current - Output / Channel: 90mA; Voltage - Supply, Single/Dual (±): 2.5 V ~ 12.6 V, ±1.25 V ~ 6.3 V; Supplier 1: Digi-Key; RoHS 1: RoHS non-compliant; Description 1: IC OPAMP R-R I/O 800MHZ SOT-23-6; Stock 1: 368; Pricing 1: 1=3.69, 25=3.3136, 100=2.9455 (CAD); Gain Bandwidth Product: 800MHz; -3db Bandwidth: -; Operating Temperature: 0°C ~ 70°C; Mounting Type: Surface Mount; Package / Case: SOT-23-6; Supplier Device Package: TSOT-23-6; Packaging: Cut Tape (CT); ComponentLink1URL: http://www.linear.com/docs/3869; ComponentLink1Description: http://www.linear.com/docs/3869; Supplier Part Number 1: LT6200CS6-5#TRMCT-ND
footprint SOT23-6
pins: 1 OUT, 2 V- (power), 3 IN+, 4 IN-, 5 En, 6 V+ (power)
1 alternate drawing of the same symbol
text: EN

## MAX6126
designator U?, comment TBD
Votlage Referance
footprint SO8
pins: 1 IC, 2 In, 3 TEMP, 4 Gnd, 5 TRIM, 6 Vout, 7 NC, 8 IC

## MAX6956AAX+
designator U?
IO expander 28 IOs, I2C; Manufacturer 1: Maxim Integrated; Description 1: IC DRVR DSPL LED 36-SSOP; Category 1: Integrated Circuits (ICs); Display Type: LED; Interface: I²C; Current - Supply: 180µA; Voltage - Supply: 2.5 V ~ 5.5 V; Supplier 1: Digi-Key; Manufacturer Part Number 1: MAX6956AAX+; RoHS 1: RoHS Compliant; Stock 1: 19255; Pricing 1: 1=10.64, 25=7.4604, 100=5.4065, 500=4.75594 (CAD); Configuration: -; Digits or Characters: -; Operating Temperature: -40°C ~ 125°C; Mounting Type: Surface Mount; Package / Case: 36-BSOP (0.295", 7.50mm Width); Supplier Device Package: 36-SSOP; Packaging: Tube; ComponentLink1URL: http://datasheets.maximintegrated.com/en/ds/MAX6956.pdf; ComponentLink1Description: http://datasheets.maximintegrated.com/en/ds/MAX6956.pdf; Supplier Part Number 1: MAX6956AAX+-ND
footprint SOP36Body15.4mmx7.5mm (SOP, 36-Leads, Body 15.38x7.50mm, Pitch 0.80mm, IPC Medium Density)
pins: 1 Iset, 2 Gnd, 3 Gnd, 4 AD0, 5 IO8, 6 IO12, 7 IO9, 8 IO13, 9 IO10, 10 IO14, 11 IO11, 12 IO15, 13 IO16, 14 IO17, 15 IO18, 16 IO19, 17 IO20, 18 IO21, 19 IO22, 20 IO23, 21 IO24, 22 IO25, 23 IO26, 24 IO27, 25 IO28, 26 IO7, 27 IO29, 28 IO6, 29 IO30, 30 IO5, 31 IO31, 32 IO4, 33 SDA, 34 SCL, 35 AD1, 36 V+

## P82B96
designator U?, comment P82B96DP,118
IC DUAL BI-DIR BUS BUFFER 8-TSSOP; Manufacturer 1: NXP Semiconductors; Description 1: IC DUAL BUS BUFF 8-TSSOP; Category 1: Integrated Circuits (ICs); Tx/Rx Type: I²C Logic; Delay Time: 5.0ns; Capacitance - Input: 7pF; Voltage - Supply: 2 V ~ 15 V; Current - Supply: 900µA; Supplier 1: Digi-Key; Manufacturer Part Number 1: P82B96DP,118; RoHS 1: RoHS Compliant; Stock 1: 6660; Pricing 1: 1=3.55, 10=3.18, 25=2.8588, 100=2.6001, 250=2.35368, 500=2.1072, 1000=1.77448 (CAD); Type: Buffer; Mounting Type: Surface Mount; Package / Case: 8-TSSOP, 8-MSOP (0.118", 3.00mm Width); Supplier Device Package: 8-TSSOP; Packaging: Cut Tape (CT); ComponentLink1URL: http://www.nxp.com/documents/data_sheet/P82B96.pdf; ComponentLink1Description: http://www.nxp.com/documents/data_sheet/P82B96.pdf; Supplier Part Number 1: 568-3197-1-ND
footprint MSOP8-P82B96 (TSOP, 8-Leads, Body 3.1x3.1mm (max), Pitch 0.65mm, IPC Medium Density)
pins: 1 Sx, 2 Rx, 3 Tx, 4 Gnd, 5 Ty, 6 Ry, 7 Sy, 8 Vcc

## REF43
designator U?
Voltage Referance
footprint SO8
pins: 1 IC, 2 In, 3 TEMP, 4 Gnd, 5 TRIM, 6 Vout, 7 NC, 8 IC

## Res0603
designator RHS?  value DNL  Param: 1%
Resistor; Param1: 100ppm/C; TechInfo: *
simulation model RESISTOR (Resistor)
signal-integrity model Res
footprint 0603
footprint 0805
pins: 1, 2

## RES 0603
designator R?  value 10K
Resistor; ManufacturerPartNumber: 10K 1/10W 1% 100ppm/C 0603; Manufacturer: Generic; ManufacturerPartNumber 1: e.g CRCW0603 series; Tolerance: 1%; Power: 1/10W; TempCoef: 100ppm/C; Footprint: 0603; Supplier 1: Arrow; Supplier 2: Digi-Key; Supplier Part Number 1: 4070372S9500174N6892; Supplier Part Number 2: 541-0.0GDKR-ND
footprint 0603
pins: 1 1 , 2

## RES 0805
designator R?, comment 0, 0805
RES 0.0 OHM 1/8W 0805 SMD; Manufacturers P/N: e.g CRCW08050000Z0EAHP; Manufacturer: e.g Vishay/Dale; Part constraints: 0Ohm jumper, >=4A, 0805, <=5mOhms; Param1: 200ppm/C; Value: DNL; CanPurchaseFrom: Newark; Param: 1%
simulation model RESISTOR (Resistor)
signal-integrity model Res
footprint 0805
pins: 1, 2

## RES 1206
designator R?, comment 100, 1206
RES 100 OHM 1/4W 1206 SMD; Manufacturers Part Number: ESR18EZPF1000; Manufacturer: Rohm Semiconductor; Part constraints: 100 Ohm, 1206, 100ppm, 1%, 1/3W; Value: 100; Supplier 1: Digi-Key; Supplier Part Number 1: RHM100AFCT-ND
simulation model RESISTOR (Resistor)
signal-integrity model Res
footprint 1206
pins: 1, 2

## SHIELD 20S-CBS-3x2.5x0.2
designator Shield?, comment Shield
20S-CBSA-3x2.5x0.2 (assembled fence and cover); Manufacturer: Leadertech; Supplier 1: Leadertech; Supplier Part Number 1: 20S-CBSA-3x2.5x0.2 (assembled fence and cover); Part Constraints: 20S-CBSA-3x2.5x0.2 (assembled fence and cover)
text: SHIELD

## ShieldBase
designator SH?, comment LeaderTech 20S-CBS-2x0.5x0.2 - DIVIDE QUANITY REQURIED BY 10!  (value not drawn)
Part Constraints: LeaderTech 20S-CBS-2x0.5x0.2 - DIVIDE QUANITY REQURIED BY 10!; Manufacturers P/N: LeaderTech 20S-CBS-2x0.5x0.2 - DIVIDE QUANITY REQURIED BY 10!; Manufacturer: LeaderTech; CanPurchaseFrom: LeaderTech
footprint SHIELD BASE
footprint SHIELD BASE CORNER
pins: 1

## TestPoint
designator TP?  (no BOM)
TestPoint1; Manufacturers P/N: DNL; Footprint: *; Techinf: *; Part constraints: DNL
footprint TP-3520-SK
pins: 1

## THS4131CD
designator U?
IC AMP DIFF LDIST LP 85MA 8SOIC; Manufacturer 1: Texas Instruments; Description 1: IC OPAMP DIFF 225MHZ SGL 8SOIC; Category 1: Integrated Circuits (ICs); Amplifier Type: Differential; Number of Circuits: 1; Slew Rate: 52 V/µs; Gain Bandwidth Product: 225MHz; -3db Bandwidth: 150MHz; Current - Input Bias: 2µA; Voltage - Input Offset: 200µV; Current - Supply: 12.3mA; Voltage - Supply, Single/Dual (±): 4 V ~ 33 V, ±2 V ~ 16.5 V; Supplier 1: Digi-Key; Manufacturer Part Number 1: THS4131CD; RoHS 1: RoHS Compliant; Stock 1: 231; Pricing 1: 1=8.25, 25=6.7592, 100=4.4512, 250=4.36876, 500=4.28634, 750=4.20391, 1000=4.12147 (CAD); Output Type: Differential; Current - Output / Channel: 85mA; Operating Temperature: 0°C ~ 70°C; Mounting Type: Surface Mount; Package / Case: 8-SOIC (0.154", 3.90mm Width); Supplier Device Package: 8-SOIC; Packaging: Tube; ComponentLink1URL: http://www.ti.com/lit/ds/symlink/ths4131.pdf; ComponentLink1Description: http://www.ti.com/lit/ds/symlink/ths4131.pdf; Supplier Part Number 1: 296-26681-5-ND
footprint SO8
pins: 1 In-, 2 Vocm, 3 V+, 4 Out+, 5 Out-, 6 V-, 7 NC, 8 In+
1 alternate drawing of the same symbol

## TPS79601DCQR
designator U?
IC LDO REG ADJ 1A SOT223-6; Manufacturer: Texas Instruments; Regulator Topology: Positive Adjustable; Voltage - Output: 1.2 V ~ 5.5 V; Voltage - Input: 2.7 V ~ 5.5 V; Voltage - Dropout (Typical): 0.2V @ 1A; Number of Regulators: 1; Current - Output: 1A (Max); Current - Limit (Min): 2.4A; Supplier 1: Digi-Key; Manufacturer Part Number: TPS79601DCQR; RoHS: RoHS Compliant; Category: Integrated Circuits (ICs); Stock 1: 20519; Pricing 1: 1=3.38, 10=3.029, 25=2.7236, 100=2.4771, 250=2.24228, 500=2.00748, 1000=1.69051 (CAD); Operating Temperature: -40°C ~ 125°C; Mounting Type: Surface Mount; Package / Case: SOT-223-6; Supplier Device Package: SOT-223-6; Packaging: Cut Tape (CT); ComponentLink1URL: http://www.ti.com/lit/ds/symlink/tps79601.pdf; ComponentLink1Description: http://www.ti.com/lit/ds/symlink/tps79601.pdf
footprint SOT223-6 (SOT223, 6-Leads, Body 6.6x7.3mm (max), Pitch 1.27mm, IPC Medium Density)
pins: 1 En, 2 In, 3 Gnd, 4 Out, 5 NR/FB, 6 Gnd

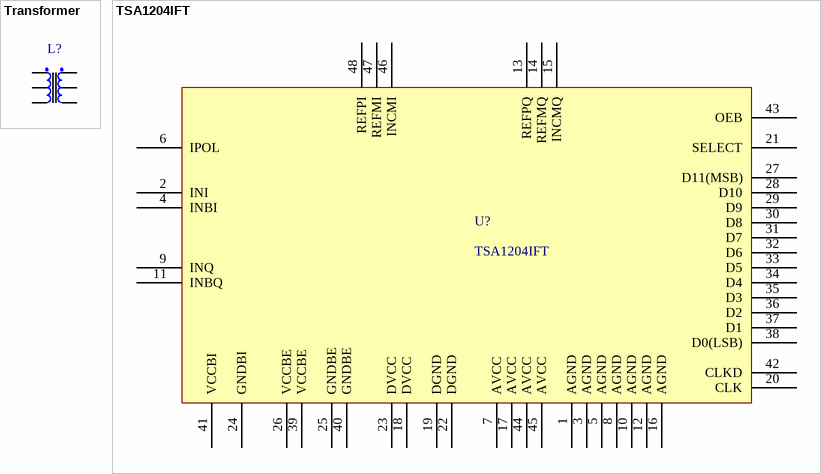
[diagram p2: symbols Transformer to TSA1204IFT]

## Transformer
designator L?
Transformer
footprint TTWB (Transformer)
pins: 1 PrimDot, 2 PrimCent, 3 Prim, 4 Sec, 5 SecCent, 6 SecDot

## TSA1204IFT
designator U?
IC CONV A/D 2-CH 12-BIT 48-TQFP; Manufacturer: STMicroelectronics; Number of Bits: 12; Sampling Rate (Per Second): 20M; Data Interface: Parallel; Number of Converters: 2; Power Dissipation (Max): 155mW; Voltage Supply Source: Analog and Digital; Number of Inputs and Type: 4 Single-Ended, Unipolar; 2 Differential, Unipolar; Supplier 1: Digi-Key; Manufacturer Part Number: TSA1204IFT; RoHS: RoHS Compliant; Category: Integrated Circuits (ICs); Stock 1: 2062; Pricing 1: 1=9.11 (CAD); Operating Temperature: -40°C ~ 85°C; Mounting Type: Surface Mount; Package / Case: 48-TQFP; Supplier Device Package: 48-TQFP (7x7); Packaging: Cut Tape (CT); ComponentLink1URL: http://www.st.com/internet/com/TECHNICAL_RESOURCES/TECHNICAL_LITERATURE/DATASHEET/CD00002785.pdf; ComponentLink1Description: http://www.st.com/internet/com/TECHNICAL_RESOURCES/TECHNICAL_LITERATURE/DATASHEET/CD00002785.pdf
footprint TSA1204 (TSQFP, 48-Leads, Body 9.1x9.1mm (max), Pitch 0.50mm, IPC Medium Density)
pins: 1 AGND, 2 INI, 3 AGND, 4 INBI, 5 AGND, 6 IPOL, 7 AVCC, 8 AGND, 9 INQ, 10 AGND, 11 INBQ, 12 AGND, 13 REFPQ, 14 REFMQ, 15 INCMQ, 16 AGND, 17 AVCC, 18 DVCC, 19 DGND, 20 CLK, 21 SELECT, 22 DGND, 23 DVCC, 24 GNDBI, 25 GNDBE, 26 VCCBE, 27 D11(MSB), 28 D10, 29 D9, 30 D8, 31 D7, 32 D6, 33 D5, 34 D4, 35 D3, 36 D2, 37 D1, 38 D0(LSB), 39 VCCBE, 40 GNDBE, 41 VCCBI, 42 CLKD, 43 OEB, 44 AVCC, 45 AVCC, 46 INCMI, 47 REFMI, 48 REFPI